# Altium footprint library Connector_PinHeader_2.54mm.PcbLib: 17 footprints (part 1 of 2)
Each footprint in its own frame and in the unit in brackets; x right, y up, seen from the top. Pads: shape width x height; smd on the part's side, far side on the other; paste and mask are expansions set on the pad; w line width, h text height; cw(c..) or ccw(c..) is an arc to the next point about the centre after c.
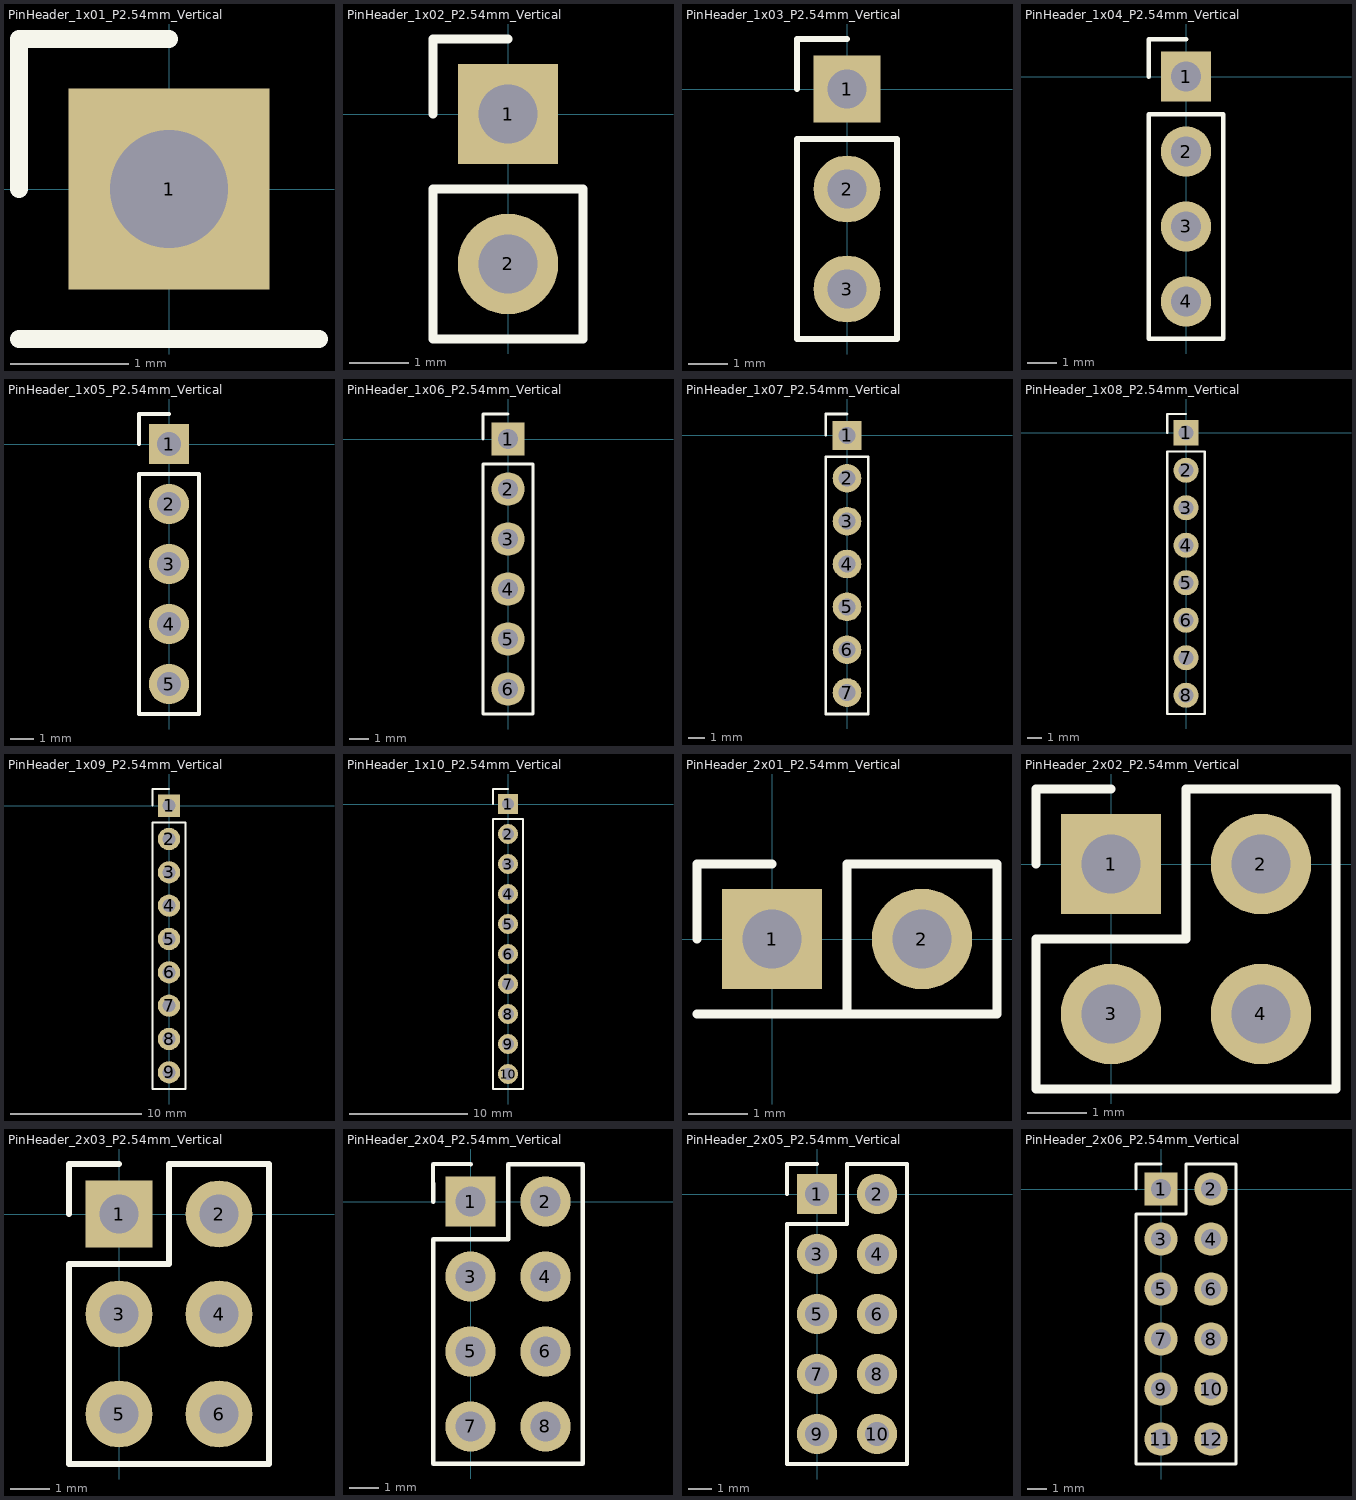
[diagram p0: the footprints below, top view; thin cyan lines are the x and y axes]

## PinHeader_1x01_P2.54mm_Vertical [mm]
pads (1):
  rect 1.7x1.7 hole 1: 1(0,0)
Top Overlay:
  lines w0.152: -1.27,-1.27 1.27,-1.27 ; -1.27,0 -1.27,1.27 0,1.27
3D body "PinHeader_1x01_P2.54mm_Vertical.step": height 8.64, standoff -2.9, extent -1.27,-1.27 1.27,1.27

## PinHeader_1x02_P2.54mm_Vertical [mm]
pads (2):
  rect 1.7x1.7 hole 1: 1(0,0)
  round 1.7 hole 1: 2(0,-2.54)
Top Overlay:
  lines w0.152: -1.27,0 -1.27,1.27 0,1.27 ; -1.27,-3.81 1.27,-3.81 1.27,-1.27 -1.27,-1.27 -1.27,-3.81
3D body "PinHeader_1x02_P2.54mm_Vertical.step": height 8.54, standoff -3, extent -1.27,-3.81 1.27,1.27

## PinHeader_1x03_P2.54mm_Vertical [mm]
pads (3):
  rect 1.7x1.7 hole 1: 1(0,0)
  round 1.7 hole 1: 2(0,-2.54) 3(0,-5.08)
Top Overlay:
  lines w0.152: -1.27,0 -1.27,1.27 0,1.27 ; -1.27,-6.35 -1.27,-1.27 1.27,-1.27 1.27,-6.35 -1.27,-6.35
3D body "PinHeader_1x03_P2.54mm_Vertical.step": height 8.54, standoff -3, extent -1.27,-6.35 1.27,1.27

## PinHeader_1x04_P2.54mm_Vertical [mm]
pads (4):
  rect 1.7x1.7 hole 1: 1(0,0)
  round 1.7 hole 1: 2(0,-2.54) 3(0,-5.08) 4(0,-7.62)
Top Overlay:
  lines w0.152: -1.27,0 -1.27,1.27 0,1.27 ; -1.27,-1.27 1.27,-1.27 ; -1.27,-1.27 1.27,-1.27 ; -1.27,-1.27 -1.27,-8.89 1.27,-8.89 1.27,-1.27
3D body "PinHeader_1x04_P2.54mm_Vertical.step": height 8.64, standoff -2.9, extent -1.27,-8.89 1.27,1.27

## PinHeader_1x05_P2.54mm_Vertical [mm]
pads (5):
  rect 1.7x1.7 hole 1: 1(0,0)
  round 1.7 hole 1: 2(0,-2.54) 3(0,-5.08) 4(0,-7.62) 5(0,-10.16)
Top Overlay:
  lines w0.152: -1.27,0 -1.27,1.27 0,1.27 ; -1.27,-11.43 1.27,-11.43 1.27,-1.27 -1.27,-1.27 -1.27,-11.43
3D body "PinHeader_1x05_P2.54mm_Vertical.step": height 8.54, standoff -3, extent -1.27,-11.43 1.27,1.27

## PinHeader_1x06_P2.54mm_Vertical [mm]
pads (6):
  rect 1.7x1.7 hole 1: 1(0,0)
  round 1.7 hole 1: 2(0,-2.54) 3(0,-5.08) 4(0,-7.62) 5(0,-10.16) 6(0,-12.7)
Top Overlay:
  lines w0.152: -1.27,0 -1.27,1.27 0,1.27 ; -1.27,-13.97 -1.27,-1.27 1.27,-1.27 1.27,-13.97 -1.27,-13.97
3D body "PinHeader_1x06_P2.54mm_Vertical.step": height 8.54, standoff -3, extent -1.27,-13.97 1.27,1.27

## PinHeader_1x07_P2.54mm_Vertical [mm]
pads (7):
  rect 1.7x1.7 hole 1: 1(0,0)
  round 1.7 hole 1: 2(0,-2.54) 3(0,-5.08) 4(0,-7.62) 5(0,-10.16) 6(0,-12.7) 7(0,-15.24)
Top Overlay:
  lines w0.152: -1.27,0 -1.27,1.27 0,1.27 ; -1.27,-16.51 -1.27,-1.27 1.27,-1.27 1.27,-16.51 -1.27,-16.51
3D body "PinHeader_1x07_P2.54mm_Vertical.step": height 8.54, standoff -3, extent -1.27,-16.51 1.27,1.27

## PinHeader_1x08_P2.54mm_Vertical [mm]
pads (8):
  rect 1.7x1.7 hole 1: 1(0,0)
  round 1.7 hole 1: 2(0,-2.54) 3(0,-5.08) 4(0,-7.62) 5(0,-10.16) 6(0,-12.7) 7(0,-15.24) 8(0,-17.78)
Top Overlay:
  lines w0.152: -1.27,0 -1.27,1.27 0,1.27 ; -1.27,-19.05 1.27,-19.05 1.27,-1.27 -1.27,-1.27 -1.27,-19.05
3D body "PinHeader_1x08_P2.54mm_Vertical.step": height 8.54, standoff -3, extent -1.27,-19.05 1.27,1.27

## PinHeader_1x09_P2.54mm_Vertical [mm]
pads (9):
  rect 1.7x1.7 hole 1: 1(0,0)
  round 1.7 hole 1: 2(0,-2.54) 3(0,-5.08) 4(0,-7.62) 5(0,-10.16) 6(0,-12.7) 7(0,-15.24) 8(0,-17.78) 9(0,-20.32)
Top Overlay:
  lines w0.152: -1.27,0 -1.27,1.27 0,1.27 ; -1.27,-21.59 1.27,-21.59 1.27,-1.27 -1.27,-1.27 -1.27,-21.59
3D body "PinHeader_1x09_P2.54mm_Vertical.step": height 8.54, standoff -3, extent -1.27,-21.59 1.27,1.27

## PinHeader_1x10_P2.54mm_Vertical [mm]
pads (10):
  rect 1.7x1.7 hole 1: 1(0,0)
  round 1.7 hole 1: 2(0,-2.54) 3(0,-5.08) 4(0,-7.62) 5(0,-10.16) 6(0,-12.7) 7(0,-15.24) 8(0,-17.78) 9(0,-20.32) 10(0,-22.86)
Top Overlay:
  lines w0.152: -1.27,0 -1.27,1.27 0,1.27 ; -1.27,-24.13 -1.27,-1.27 1.27,-1.27 1.27,-24.13 -1.27,-24.13
3D body "PinHeader_1x10_P2.54mm_Vertical.step": height 8.54, standoff -3, extent -1.27,-24.13 1.27,1.27

## PinHeader_2x01_P2.54mm_Vertical [mm]
pads (2):
  rect 1.7x1.7 hole 1: 1(0,0)
  round 1.7 hole 1: 2(2.54,0)
Top Overlay:
  lines w0.152: -1.27,-1.27 1.27,-1.27 ; -1.27,0 -1.27,1.27 0,1.27 ; 1.27,-1.27 1.27,1.27 3.81,1.27 3.81,-1.27 1.27,-1.27
3D body "PinHeader_1x02_P2.54mm_Vertical.step": height 8.54, standoff -3, extent -1.27,-1.27 3.81,1.27

## PinHeader_2x02_P2.54mm_Vertical [mm]
pads (4):
  rect 1.7x1.7 hole 1: 1(0,0)
  round 1.7 hole 1: 2(2.54,0) 3(0,-2.54) 4(2.54,-2.54)
Top Overlay:
  lines w0.152: -1.27,0 -1.27,1.27 0,1.27 ; -1.27,-3.81 3.81,-3.81 3.81,1.27 1.27,1.27 1.27,-1.27 -1.27,-1.27 -1.27,-3.81
3D body "PinHeader_2x02_P2.54mm_Vertical.step": height 8.54, standoff -3, extent -1.27,-3.81 3.81,1.27

## PinHeader_2x03_P2.54mm_Vertical [mm]
pads (6):
  rect 1.7x1.7 hole 1: 1(0,0)
  round 1.7 hole 1: 2(2.54,0) 3(0,-2.54) 4(2.54,-2.54) 5(0,-5.08) 6(2.54,-5.08)
Top Overlay:
  lines w0.152: -1.27,0 -1.27,1.27 0,1.27 ; -1.27,-6.35 3.81,-6.35 3.81,1.27 1.27,1.27 1.27,-1.27 -1.27,-1.27 -1.27,-6.35
3D body "PinHeader_2x03_P2.54mm_Vertical.step": height 8.54, standoff -3, extent -1.27,-6.35 3.81,1.27

## PinHeader_2x04_P2.54mm_Vertical [mm]
pads (8):
  rect 1.7x1.7 hole 1: 1(0,0)
  round 1.7 hole 1: 2(2.54,0) 3(0,-2.54) 4(2.54,-2.54) 5(0,-5.08) 6(2.54,-5.08) 7(0,-7.62) 8(2.54,-7.62)
Top Overlay:
  lines w0.152: -1.27,0 -1.27,1.27 0,1.27 ; -1.27,-8.89 -1.27,-1.27 1.27,-1.27 1.27,1.27 3.81,1.27 3.81,-8.89 -1.27,-8.89
3D body "PinHeader_2x04_P2.54mm_Vertical.step": height 8.54, standoff -3, extent -1.27,-8.89 3.81,1.27

## PinHeader_2x05_P2.54mm_Vertical [mm]
pads (10):
  rect 1.7x1.7 hole 1: 1(0,0)
  round 1.7 hole 1: 2(2.54,0) 3(0,-2.54) 4(2.54,-2.54) 5(0,-5.08) 6(2.54,-5.08) 7(0,-7.62) 8(2.54,-7.62) 9(0,-10.16) 10(2.54,-10.16)
Top Overlay:
  lines w0.152: -1.27,0 -1.27,1.27 0,1.27 ; -1.27,-11.43 3.81,-11.43 3.81,1.27 1.27,1.27 1.27,-1.27 -1.27,-1.27 -1.27,-11.43
3D body "PinHeader_2x05_P2.54mm_Vertical.step": height 8.54, standoff -3, extent -1.27,-11.43 3.81,1.27

## PinHeader_2x06_P2.54mm_Vertical [mm]
pads (12):
  rect 1.7x1.7 hole 1: 1(0,0)
  round 1.7 hole 1: 2(2.54,0) 3(0,-2.54) 4(2.54,-2.54) 5(0,-5.08) 6(2.54,-5.08) 7(0,-7.62) 8(2.54,-7.62) 9(0,-10.16) 10(2.54,-10.16) 11(0,-12.7) 12(2.54,-12.7)
Top Overlay:
  lines w0.152: -1.27,0 -1.27,1.27 0,1.27 ; -1.27,-13.97 -1.27,-1.27 1.27,-1.27 1.27,1.27 3.81,1.27 3.81,-13.97 -1.27,-13.97
3D body "PinHeader_2x06_P2.54mm_Vertical.step": height 8.54, standoff -3, extent -1.27,-13.97 3.81,1.27